# EAGLE library part CANBUS2 (library cancape)
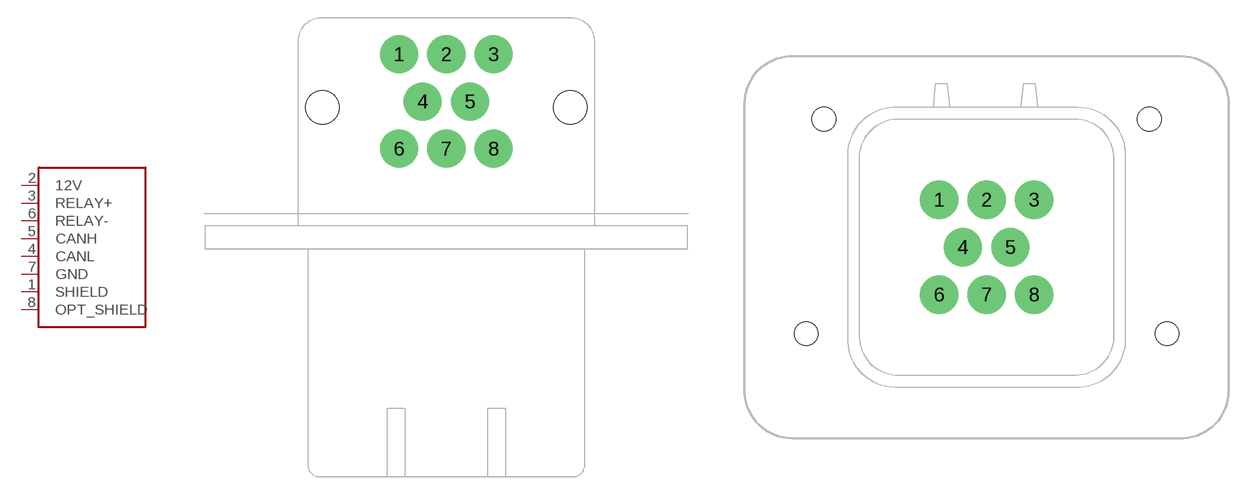
[diagram p2: symbol with the pads of 776280-6_AMPSEAL_8_RA; footprints 776280-6_AMPSEAL_8_RA, 776276-1_AMPSEAL_8_VERT]

Designator prefix -

## CANBUS2RA  [776280-6_AMPSEAL_8_RA]
1  SHIELD
2  12V
3  RELAY+
4  CANL
5  CANH
6  RELAY-
7  GND
8  OPT_SHIELD

## CANBUS2VERT  [776276-1_AMPSEAL_8_VERT]
Pads as for 776280-6_AMPSEAL_8_RA

## Footprint 776280-6_AMPSEAL_8_RA (pad centres in mm)
drill 2.2: 1 -4,4; 2 0,4; 3 4,4; 4 -2,0; 5 2,0; 6 -4,-4; 7 0,-4; 8 4,-4
hole 2.85 at -10.5,-0.5
hole 2.85 at 10.5,-0.5

## Footprint 776276-1_AMPSEAL_8_VERT (pad centres in mm)
TE AMPSEAL 8-position vertical PCB header, through-hole Part numbers: Color Plating Part number Natural Gold 1-776276-2 Black Gold 1-776276-2 Natural Tin 776276-1 Black Tin 776276-1 Product page: http://www.te.com/catalog/pn/en/776276-2? Drawing: http://www.te.com/commerce/DocumentDelivery/DDEController?Action=showdoc&DocId=Customer+Drawing%7F776276%7FB4%7Fpdf%7FEnglish%7FENG_CD_776276_B4.pdf%7F776276-2 god I hate TE's website
drill 2.2: 1 -4,4; 2 0,4; 3 4,4; 4 -2,0; 5 2,0; 6 -4,-4; 7 0,-4; 8 4,-4
hole 2 at -13.7,10.8
hole 2 at 13.7,10.8
hole 2 at -15.2,-7.3
hole 2 at 15.2,-7.3